# EAGLE library part LIS3LV02DQ (library 000001)
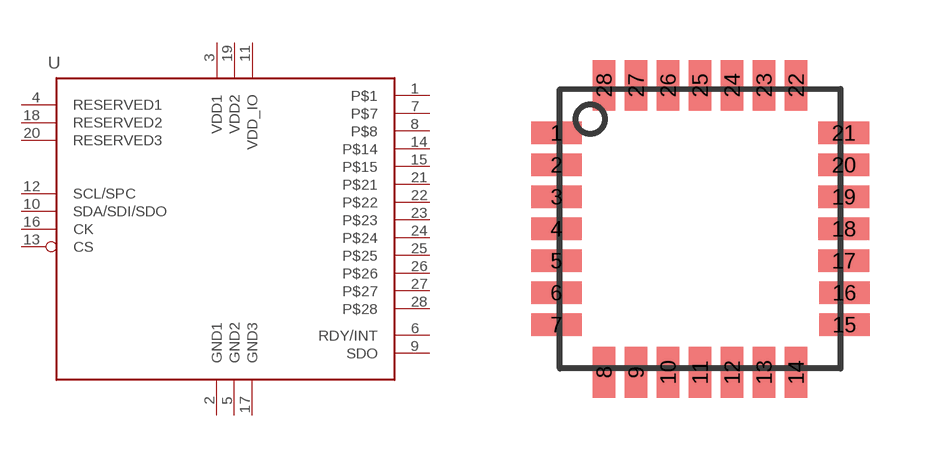
[diagram p25: symbol with the pads of QFPN-28; footprint QFPN-28]

Designator prefix -

## LIS3LV02DQ  [QFPN-28]
1  P$1  nc
2  GND1  pwr
3  VDD1  pwr
4  RESERVED1
5  GND2  pwr
6  RDY/INT  out
7  P$7  nc
8  P$8  nc
9  SDO  out
10  SDA/SDI/SDO
11  VDD_IO  pwr
12  SCL/SPC
13  CS  in
14  P$14  nc
15  P$15  nc
16  CK  in
17  GND3  pwr
18  RESERVED2
19  VDD2  pwr
20  RESERVED3
21  P$21  nc
22  P$22  nc
23  P$23  nc
24  P$24  nc
25  P$25  nc
26  P$26  nc
27  P$27  nc
28  P$28  nc

## Footprint QFPN-28 (pad centres in mm)
smd 1.27 x 0.559: 1 -3.593,2.4; 2 -3.593,1.6; 3 -3.593,0.8; 4 -3.593,0; 5 -3.593,-0.8; 6 -3.593,-1.6; 7 -3.593,-2.4; 15 3.607,-2.4; 16 3.607,-1.6; 17 3.593,-0.8; 18 3.593,0; 19 3.593,0.8; 20 3.593,1.6; 21 3.593,2.4
smd 0.559 x 1.27: 8 -2.4,-3.593; 9 -1.6,-3.593; 10 -0.8,-3.593; 11 0,-3.593; 12 0.8,-3.593; 13 1.6,-3.593; 14 2.4,-3.593; 22 2.4,3.593; 23 1.6,3.593; 24 0.8,3.593; 25 0,3.593; 26 -0.8,3.593; 27 -1.6,3.593; 28 -2.4,3.593